# EAGLE library part USB2502 (library misc-ics)
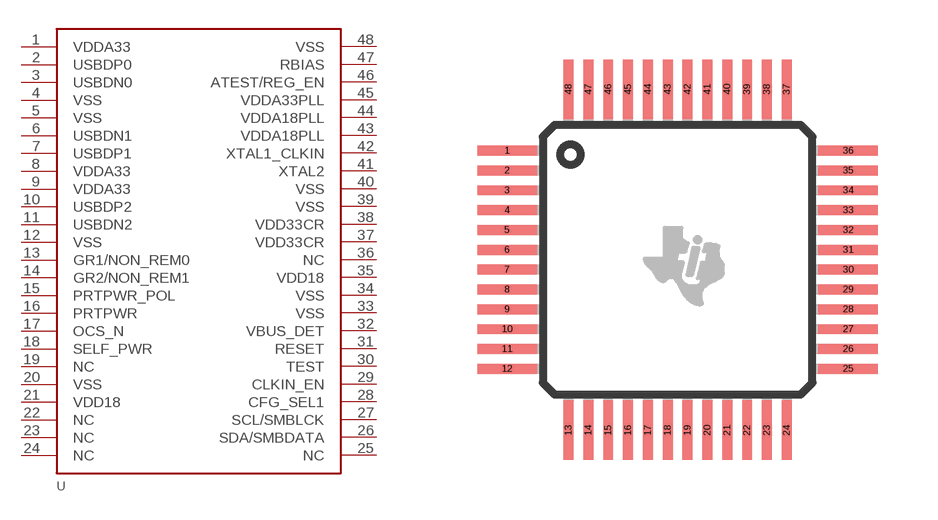
[diagram p1: symbol with the pads of S-PQFP-G48; footprint S-PQFP-G48]

Designator prefix -

## USB2502  [S-PQFP-G48]
1  VDDA33
2  USBDP0
3  USBDN0
4  VSS
5  VSS
6  USBDN1
7  USBDP1
8  VDDA33
9  VDDA33
10  USBDP2
11  USBDN2
12  VSS
13  GR1/NON_REM0
14  GR2/NON_REM1
15  PRTPWR_POL
16  PRTPWR
17  OCS_N
18  SELF_PWR
19  NC
20  VSS
21  VDD18
22  NC
23  NC
24  NC
25  NC
26  SDA/SMBDATA
27  SCL/SMBLCK
28  CFG_SEL1
29  CLKIN_EN
30  TEST
31  RESET
32  VBUS_DET
33  VSS
34  VSS
35  VDD18
36  NC
37  VDD33CR
38  VDD33CR
39  VSS
40  VSS
41  XTAL2
42  XTAL1_CLKIN
43  VDDA18PLL
44  VDDA18PLL
45  VDDA33PLL
46  ATEST/REG_EN
47  RBIAS
48  VSS

## Footprint S-PQFP-G48 (pad centres in mm)
PFB (S-PQFP-G48) Source: http://focus.ti.com/lit/ds/symlink/src4392.pdf
smd 1.5 x 0.25: 1 -4.3,2.75; 2 -4.3,2.25; 3 -4.3,1.75; 4 -4.3,1.25; 5 -4.3,0.75; 6 -4.3,0.25; 7 -4.3,-0.25; 8 -4.3,-0.75; 9 -4.3,-1.25; 10 -4.3,-1.75; 11 -4.3,-2.25; 12 -4.3,-2.75; 25 4.3,-2.75; 26 4.3,-2.25; 27 4.3,-1.75; 28 4.3,-1.25; 29 4.3,-0.75; 30 4.3,-0.25; 31 4.3,0.25; 32 4.3,0.75; 33 4.3,1.25; 34 4.3,1.75; 35 4.3,2.25; 36 4.3,2.75
smd 0.25 x 1.5: 13 -2.75,-4.3; 14 -2.25,-4.3; 15 -1.75,-4.3; 16 -1.25,-4.3; 17 -0.75,-4.3; 18 -0.25,-4.3; 19 0.25,-4.3; 20 0.75,-4.3; 21 1.25,-4.3; 22 1.75,-4.3; 23 2.25,-4.3; 24 2.75,-4.3; 37 2.75,4.3; 38 2.25,4.3; 39 1.75,4.3; 40 1.25,4.3; 41 0.75,4.3; 42 0.25,4.3; 43 -0.25,4.3; 44 -0.75,4.3; 45 -1.25,4.3; 46 -1.75,4.3; 47 -2.25,4.3; 48 -2.75,4.3